# EAGLE library part BF8162B (library ICs)
Bitfury ASIC miner IC 75GH/s
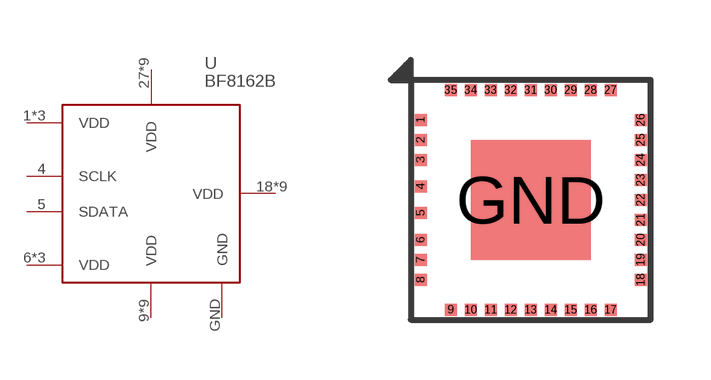
[diagram p170: symbol with the pads of FCLGA35; footprint FCLGA35]

Designator prefix U

## BF8162B (HEIGHT: 0.81; PRICE_PER: 8.15; VALUE: BF8162B)  [FCLGA35]
1  VDD
2  VDD
3  VDD
4  SCLK
5  SDATA
6  VDD
7  VDD
8  VDD
9  VDD
10  VDD
11  VDD
12  VDD
13  VDD
14  VDD
15  VDD
16  VDD
17  VDD
18  VDD
19  VDD
20  VDD
21  VDD
22  VDD
23  VDD
24  VDD
25  VDD
26  VDD
27  VDD
28  VDD
29  VDD
30  VDD
31  VDD
32  VDD
33  VDD
34  VDD
35  VDD
GND  GND

## Footprint FCLGA35 (pad centres in mm)
smd 0.3 x 0.3: 1 -2.75,2; 2 -2.75,1.5; 3 -2.75,1; 4 -2.75,0.334; 5 -2.75,-0.334; 6 -2.75,-1; 7 -2.75,-1.5; 8 -2.75,-2; 9 -2,-2.75; 10 -1.5,-2.75; 11 -1,-2.75; 12 -0.5,-2.75; 13 0,-2.75; 14 0.5,-2.75; 15 1,-2.75; 16 1.5,-2.75; 17 2,-2.75; 18 2.75,-2; 19 2.75,-1.5; 20 2.75,-1; 21 2.75,-0.5; 22 2.75,0; 23 2.75,0.5; 24 2.75,1; 25 2.75,1.5; 26 2.75,2; 27 2,2.75; 28 1.5,2.75; 29 1,2.75; 30 0.5,2.75; 31 0,2.75; 32 -0.5,2.75; 33 -1,2.75; 34 -1.5,2.75; 35 -2,2.75
smd 3 x 3: GND 0,0